# Altium footprint library Resonators.PcbLib: 1 footprints
Each footprint in its own frame and in the unit in brackets; x right, y up, seen from the top. Pads: shape width x height; smd on the part's side, far side on the other; paste and mask are expansions set on the pad; w line width, h text height; cw(c..) or ccw(c..) is an arc to the next point about the centre after c.
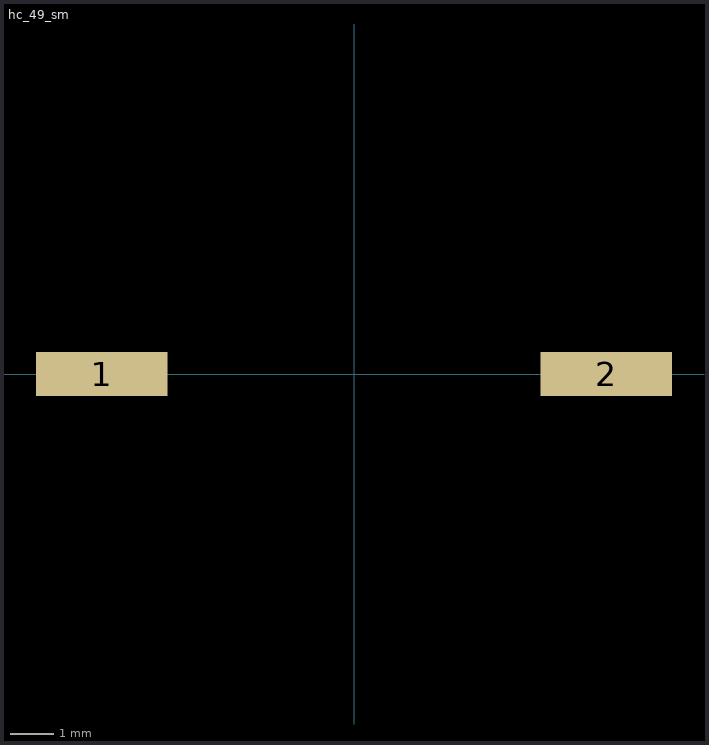
[diagram p0: the footprint, top view; thin cyan lines are the x and y axes]

## hc_49_sm [mm]
pads (2):
  rect 3x1 smd: 1(-5.75,0) 2(5.75,0)
3D body "HC49_SM.SLDPRT": height 4.3, standoff 0, extent -6.4,-2.415 6.4,2.415